# EAGLE library part AD8186 (library analog_devices)
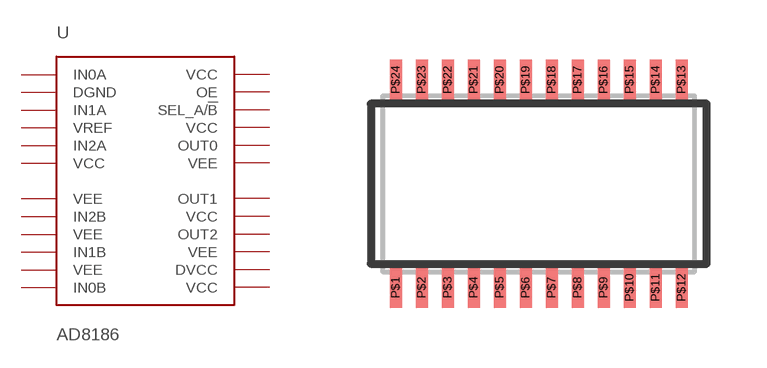
[diagram p0: symbol with the pads of AD8186_TSSOP; footprint AD8186_TSSOP]

Designator prefix U

## AD8186TSSOP  [AD8186_TSSOP]
P$1  IN0A  in
P$2  DGND  pwr
P$3  IN1A  in
P$4  VREF  pwr
P$5  IN2A  in
P$6  VCC  pwr
P$7  VEE  pwr
P$8  IN2B  in
P$9  VEE  pwr
P$10  IN1B  in
P$11  VEE  pwr
P$12  IN0B  in
P$13  VCC  pwr
P$14  DVCC  pwr
P$15  VEE  pwr
P$16  OUT2  out
P$17  VCC  pwr
P$18  OUT1  out
P$19  VEE  pwr
P$20  OUT0  out
P$21  VCC  pwr
P$22  SEL_A/!B
P$23  OE  in
P$24  VCC  pwr

## Footprint AD8186_TSSOP (pad centres in mm)
smd 0.3 x 1: P$1 -3.575,-2.6; P$2 -2.925,-2.6; P$3 -2.275,-2.6; P$4 -1.625,-2.6; P$5 -0.975,-2.6; P$6 -0.325,-2.6; P$7 0.325,-2.6; P$8 0.975,-2.6; P$9 1.625,-2.6; P$10 2.275,-2.6; P$11 2.925,-2.6; P$12 3.575,-2.6; P$13 3.575,2.6; P$14 2.925,2.6; P$15 2.275,2.6; P$16 1.625,2.6; P$17 0.975,2.6; P$18 0.325,2.6; P$19 -0.325,2.6; P$20 -0.975,2.6; P$21 -1.625,2.6; P$22 -2.275,2.6; P$23 -2.925,2.6; P$24 -3.575,2.6